# EAGLE library part SN65HVD1791 (library IC_Interface)
Fault-Protected RS-485 Transceivers With Extended Common-Mode Range Datasheet <http://www.ti.com/lit/ds/symlink/sn65hvd1791.pdf>
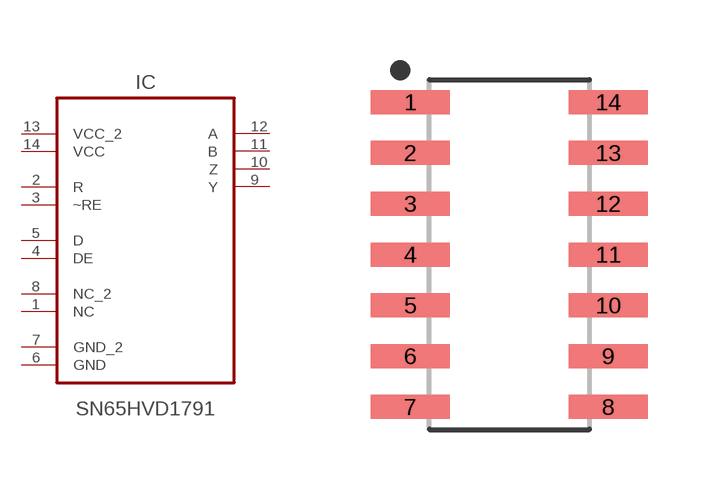
[diagram p8: symbol with the pads of SOIC127P600X175-14N; footprint SOIC127P600X175-14N]

Designator prefix IC

## SN65HVD1791_SOIC (CATEGORY: IC_Interface; MANUFACTURER: TI; MPN: SN65HVD1791DR; OPERATING_TEMP: -40 to +105 °C; PART_STATUS: Active; ROHS_COMPLIANT: RoHS3 Compliant; SUB-CATEGORY: Transceiver; THERMALLOSS: 0.32W; VALUE: SN65HVD1791)  [SOIC127P600X175-14N]
1  NC  nc
2  R  in
3  ~RE  in
4  DE  in
5  D  in
6  GND  pas
7  GND_2  pas
8  NC_2  nc
9  Y  in
10  Z  in
11  B  in
12  A  in
13  VCC_2  pwr
14  VCC  pwr

## Footprint SOIC127P600X175-14N (pad centres in mm)
14-SOIC, 1.27 mm pitch, 6.00 mm span, 8.65 X 3.90 X 1.75 mm body 14-pin SOIC package with 1.27 mm pitch, 6.00 mm span with body size 8.65 X 3.90 X 1.75 mm
smd 1.968 x 0.599: 1 -2.473,3.81; 2 -2.473,2.54; 3 -2.473,1.27; 4 -2.473,0; 5 -2.473,-1.27; 6 -2.473,-2.54; 7 -2.473,-3.81; 8 2.473,-3.81; 9 2.473,-2.54; 10 2.473,-1.27; 11 2.473,0; 12 2.473,1.27; 13 2.473,2.54; 14 2.473,3.81